# EAGLE library part 74*2G14 (library m_ic-signal)
SN74LVC2G14 Dual Schmitt-Trigger Inverter
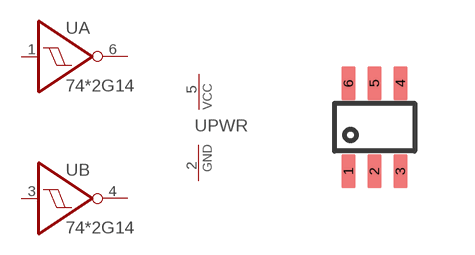
[diagram p13: symbol with the pads of R-PDSO-G6; footprint R-PDSO-G6]

Designator prefix U; gates A=7414 B=7414 PWR=PWRN

## 742G14DCK (MANUF: TI; PARTNUM: SN74LVC2G14DCKR)  [R-PDSO-G6]
1  A:I  in
2  PWR:GND  pwr
3  B:I  in
4  B:O  out
5  PWR:VCC  pwr
6  A:O  out

## Footprint R-PDSO-G6 (pad centres in mm)
Plastic Small Outline Package SOT-23 (5) Based on TI drawings 4073253-4/N 12/14, 4209593-3/C 08/11 Note: The datsheet calls for a 0.07" soldermask clearance. Thedatasheet specifies paste stencil openings with 0.025" clearance to edge of copper pad. Polygons were used to preserve edge rounding per IEC standards.
smd 0.35 x 0.85: 1 -0.65,-1.1; 2 0,-1.1; 3 0.65,-1.1; 4 0.65,1.1; 5 0,1.1; 6 -0.65,1.1